# EAGLE library part LMC6062 (library SquantorIC)
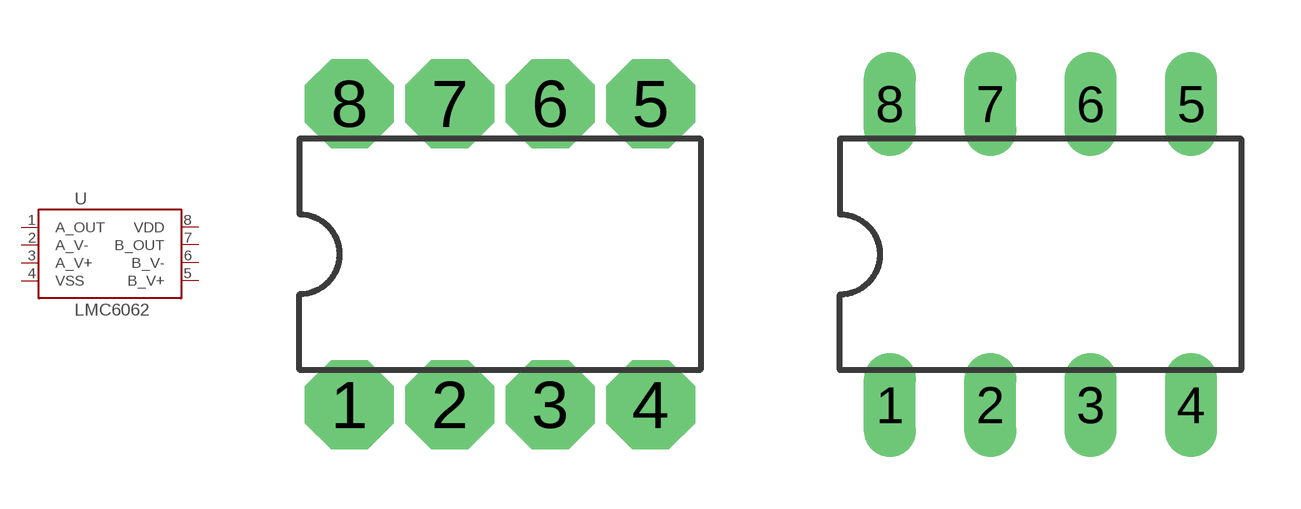
[diagram p6: symbol with the pads of DIL08_1.5MM; footprints DIL08_1.5MM, DIL08]

Designator prefix -

## LMC6062DIL_1.5MM  [DIL08_1.5MM]
1  A_OUT  out
2  A_V-  in
3  A_V+  in
4  VSS  pwr
5  B_V+  in
6  B_V-  in
7  B_OUT  out
8  VDD  pwr

## LMC6062DIL  [DIL08]
Pads as for DIL08_1.5MM

## LMC6062SOIC  [SO-08]
Pads as for DIL08_1.5MM

## Footprint DIL08_1.5MM (pad centres in mm)
drill 1.5 octagon: 1 -3.81,-3.81; 2 -1.27,-3.81; 3 1.27,-3.81; 4 3.81,-3.81; 5 3.81,3.81; 6 1.27,3.81; 7 -1.27,3.81; 8 -3.81,3.81

## Footprint DIL08 (pad centres in mm)
Dual In Line Package
drill 0.813 long: 1 -3.81,-3.81; 2 -1.27,-3.81; 3 1.27,-3.81; 4 3.81,-3.81; 5 3.81,3.81; 6 1.27,3.81; 7 -1.27,3.81; 8 -3.81,3.81

## Footprint SO-08 (pad centres in mm)
D (R-PDSO-G8) Plastic Small Outline Package Source: http://focus.ti.com/lit/ds/symlink/sn65als176.pdf
smd 0.6 x 2.2: 1 -1.905,-2.6; 2 -0.635,-2.6; 3 0.635,-2.6; 4 1.905,-2.6; 5 1.905,2.6; 6 0.635,2.6; 7 -0.635,2.6; 8 -1.905,2.6